# Altium footprint library SMD-LED.PcbLib: 1 footprints
Each footprint in its own frame and in the unit in brackets; x right, y up, seen from the top. Pads: shape width x height; smd on the part's side, far side on the other; paste and mask are expansions set on the pad; w line width, h text height; cw(c..) or ccw(c..) is an arc to the next point about the centre after c.
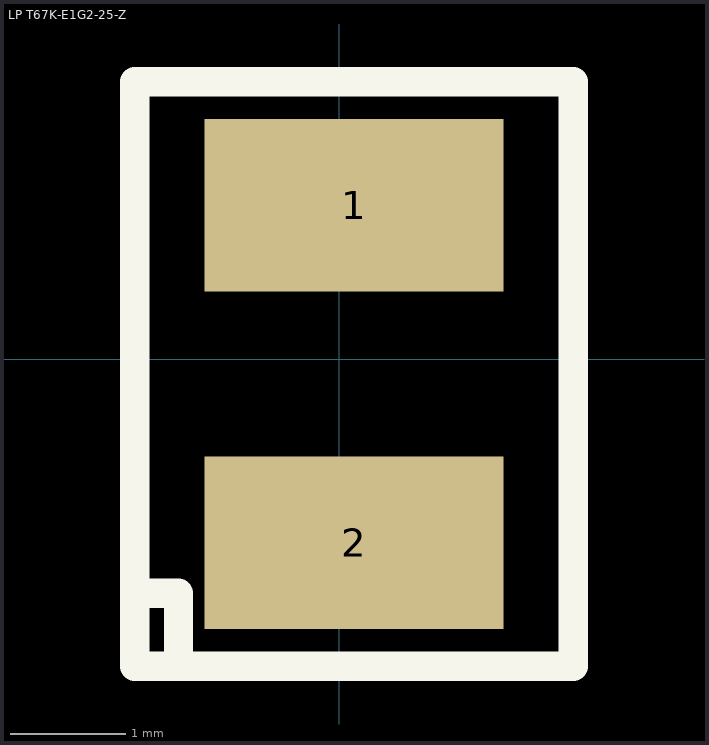
[diagram p0: the footprint, top view; thin cyan lines are the x and y axes]

## LP T67K-E1G2-25-Z [mm]
pads (2):
  rect 2.6x1.5 smd: 1(0.127,1.338) 2(0.127,-1.592)
Top Overlay:
  lines w0.254: -1.778,-2.032 -1.397,-2.032 -1.397,-2.667 ; -1.778,-2.667 -1.778,2.413 2.032,2.413 2.032,-2.667 -1.778,-2.667
3D body "User Library-LHT674_LED.step": height 2.11, standoff 0.01, extent -1.373,-1.977 1.627,1.723